# EAGLE library part 526100572/BATTERY (library iPodConnectors)
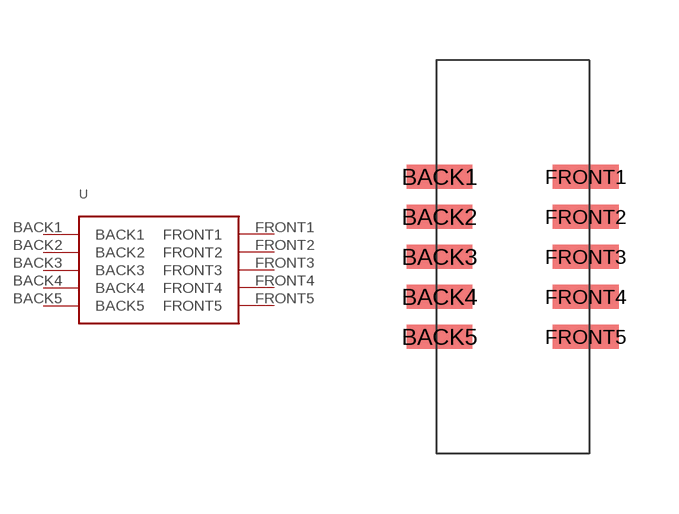
[diagram p2: symbol with the pads of 526100572; footprint 526100572]

Designator prefix -

## 526100572/BATTERY  [526100572]
BACK1  BACK1
BACK2  BACK2
BACK3  BACK3
BACK4  BACK4
BACK5  BACK5
FRONT1  FRONT1
FRONT2  FRONT2
FRONT3  FRONT3
FRONT4  FRONT4
FRONT5  FRONT5

## Footprint 526100572 (pad centres in mm)
smd 1.65 x 0.6: BACK1 -2.44,2.02; BACK2 -2.44,1.02; BACK3 -2.44,0.02; BACK4 -2.44,-0.98; BACK5 -2.44,-1.98; FRONT1 1.22,2.02; FRONT2 1.22,1.02; FRONT3 1.22,0.02; FRONT4 1.22,-0.98; FRONT5 1.22,-1.98